# Altium integrated library My_Library_THT_Plastic_Film_Capacitor.IntLib: 3 symbols
Pins are listed as number, name and electrical type; pins without a type are passive.

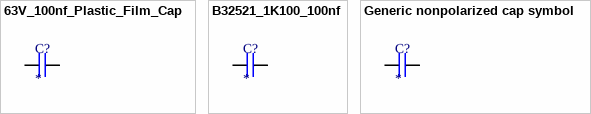
[diagram p0: symbols 63V_100nf_Plastic_Film_Cap to Generic nonpolarized cap symbol]

## 63V_100nf_Plastic_Film_Cap
designator C?
footprint 2.5x7x6_THT_Plastic_Film_Cap
pins: 1, 2

## B32521_1K100_100nf
designator C?
footprint 4x13x9_THT_Plastic_Film_Cap
pins: 1, 2

## Generic nonpolarized cap symbol
designator C?
pins: 1, 2